# Altium footprint library ADE0204.PcbLib: 1 footprints
Each footprint in its own frame and in the unit in brackets; x right, y up, seen from the top. Pads: shape width x height; smd on the part's side, far side on the other; paste and mask are expansions set on the pad; w line width, h text height; cw(c..) or ccw(c..) is an arc to the next point about the centre after c.
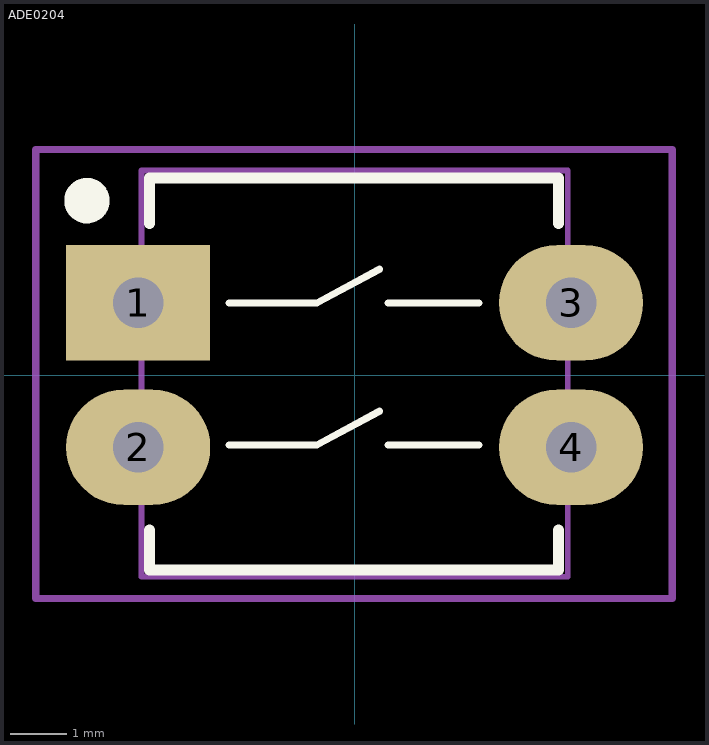
[diagram p0: the footprint, top view; thin cyan lines are the x and y axes]

## ADE0204 [mil]
pads (4):
  rect 100x80 hole 35: 1(-150,50)
  oval 100x80 hole 35: 2(-150,-50) 3(150,50) 4(150,-50)
Top Overlay:
  circle w15.75: c-185.43,120.87 r7.87
  lines w5: -87.01,-48.43 -26.27,-48.43 17.27,-24.98 ; -87.01,50 -26.27,50 17.27,73.44 ; 23.23,-48.43 86.22,-48.43 ; 23.23,50 86.22,50
  lines w7.87: -142.13,-107.48 -142.13,-135.04 141.34,-135.04 141.34,-107.48 ; -142.13,105.12 -142.13,136.61 -126.38,136.61 -13.19,136.61 109.84,136.61 141.34,136.61 141.34,105.12
Mechanical 13:
  lines w3.94: -147.64,-139.76 -147.64,141.73 147.64,141.73 147.64,-139.76 -147.64,-139.76
Mechanical 15:
  lines w5: -220.87,-154.72 220.08,-154.72 220.08,156.3 180.71,156.3 -220.87,156.3 -220.87,-154.72
3D body: height 205.43, standoff -116.57, extent -159.84,-141.34 160.16,138.66